# Altium schematic symbol library Connector_Generic_MountingPin.SchLib: 334 symbols (part 1 of 8)
Pins are listed as number, name and electrical type; pins without a type are passive.

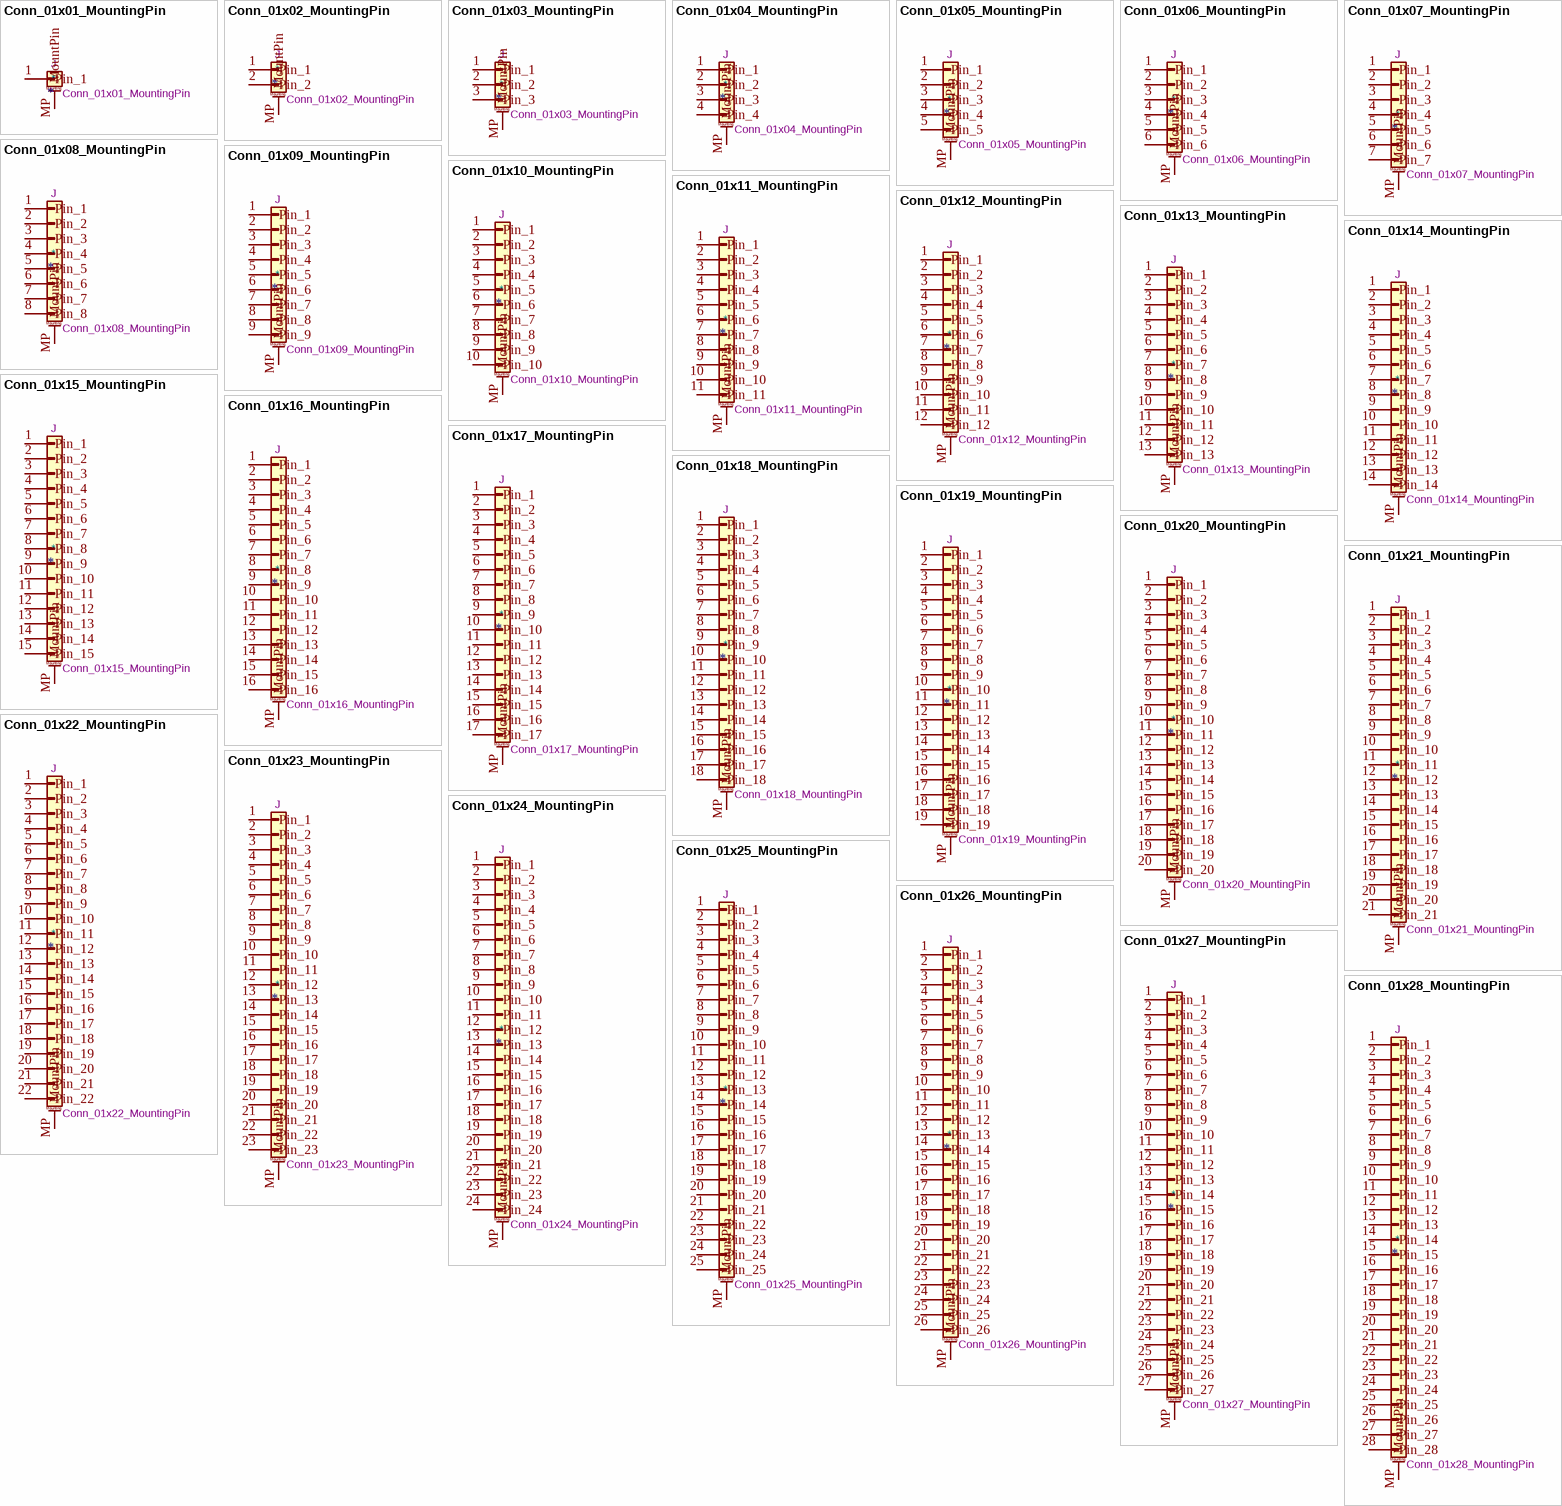
[diagram p0: symbols Conn_01x01_MountingPin to Conn_01x28_MountingPin]

## Conn_01x01_MountingPin
designator *  value Conn_01x01_MountingPin  Reference: J
Generic connectable mounting pin connector, single row, 01x01, script generated (kicad-library-utils/schlib/autogen/connector/); ki_fp_filters: Connector*:*_1x??-1MP*; Datasheet: ~; Description_: Generic connectable mounting pin connector, single row, 01x01, script generated (kicad-library-utils/schlib/autogen/connector/); ki_keywords: connector
pins: 1 Pin_1, MP MountPin
text: Mounting

## Conn_01x02_MountingPin
designator *  value Conn_01x02_MountingPin  Reference: J
Generic connectable mounting pin connector, single row, 01x02, script generated (kicad-library-utils/schlib/autogen/connector/); ki_fp_filters: Connector*:*_1x??-1MP*; Datasheet: ~; Description_: Generic connectable mounting pin connector, single row, 01x02, script generated (kicad-library-utils/schlib/autogen/connector/); ki_keywords: connector
pins: 1 Pin_1, 2 Pin_2, MP MountPin
text: Mounting

## Conn_01x03_MountingPin
designator *  value Conn_01x03_MountingPin  Reference: J
Generic connectable mounting pin connector, single row, 01x03, script generated (kicad-library-utils/schlib/autogen/connector/); ki_fp_filters: Connector*:*_1x??-1MP*; Datasheet: ~; Description_: Generic connectable mounting pin connector, single row, 01x03, script generated (kicad-library-utils/schlib/autogen/connector/); ki_keywords: connector
pins: 1 Pin_1, 2 Pin_2, 3 Pin_3, MP MountPin
text: Mounting

## Conn_01x04_MountingPin
designator *  value Conn_01x04_MountingPin  Reference: J
Generic connectable mounting pin connector, single row, 01x04, script generated (kicad-library-utils/schlib/autogen/connector/); ki_fp_filters: Connector*:*_1x??-1MP*; Datasheet: ~; Description_: Generic connectable mounting pin connector, single row, 01x04, script generated (kicad-library-utils/schlib/autogen/connector/); ki_keywords: connector
pins: 1 Pin_1, 2 Pin_2, 3 Pin_3, 4 Pin_4, MP MountPin
text: Mounting

## Conn_01x05_MountingPin
designator *  value Conn_01x05_MountingPin  Reference: J
Generic connectable mounting pin connector, single row, 01x05, script generated (kicad-library-utils/schlib/autogen/connector/); ki_fp_filters: Connector*:*_1x??-1MP*; Datasheet: ~; Description_: Generic connectable mounting pin connector, single row, 01x05, script generated (kicad-library-utils/schlib/autogen/connector/); ki_keywords: connector
pins: 1 Pin_1, 2 Pin_2, 3 Pin_3, 4 Pin_4, 5 Pin_5, MP MountPin
text: Mounting

## Conn_01x06_MountingPin
designator *  value Conn_01x06_MountingPin  Reference: J
Generic connectable mounting pin connector, single row, 01x06, script generated (kicad-library-utils/schlib/autogen/connector/); ki_fp_filters: Connector*:*_1x??-1MP*; Datasheet: ~; Description_: Generic connectable mounting pin connector, single row, 01x06, script generated (kicad-library-utils/schlib/autogen/connector/); ki_keywords: connector
pins: 1 Pin_1, 2 Pin_2, 3 Pin_3, 4 Pin_4, 5 Pin_5, 6 Pin_6, MP MountPin
text: Mounting

## Conn_01x07_MountingPin
designator *  value Conn_01x07_MountingPin  Reference: J
Generic connectable mounting pin connector, single row, 01x07, script generated (kicad-library-utils/schlib/autogen/connector/); ki_fp_filters: Connector*:*_1x??-1MP*; Datasheet: ~; Description_: Generic connectable mounting pin connector, single row, 01x07, script generated (kicad-library-utils/schlib/autogen/connector/); ki_keywords: connector
pins: 1 Pin_1, 2 Pin_2, 3 Pin_3, 4 Pin_4, 5 Pin_5, 6 Pin_6, 7 Pin_7, MP MountPin
text: Mounting

## Conn_01x08_MountingPin
designator *  value Conn_01x08_MountingPin  Reference: J
Generic connectable mounting pin connector, single row, 01x08, script generated (kicad-library-utils/schlib/autogen/connector/); ki_fp_filters: Connector*:*_1x??-1MP*; Datasheet: ~; Description_: Generic connectable mounting pin connector, single row, 01x08, script generated (kicad-library-utils/schlib/autogen/connector/); ki_keywords: connector
pins: 1 Pin_1, 2 Pin_2, 3 Pin_3, 4 Pin_4, 5 Pin_5, 6 Pin_6, 7 Pin_7, 8 Pin_8, MP MountPin
text: Mounting

## Conn_01x09_MountingPin
designator *  value Conn_01x09_MountingPin  Reference: J
Generic connectable mounting pin connector, single row, 01x09, script generated (kicad-library-utils/schlib/autogen/connector/); ki_fp_filters: Connector*:*_1x??-1MP*; Datasheet: ~; Description_: Generic connectable mounting pin connector, single row, 01x09, script generated (kicad-library-utils/schlib/autogen/connector/); ki_keywords: connector
pins: 1 Pin_1, 2 Pin_2, 3 Pin_3, 4 Pin_4, 5 Pin_5, 6 Pin_6, 7 Pin_7, 8 Pin_8, 9 Pin_9, MP MountPin
text: Mounting

## Conn_01x10_MountingPin
designator *  value Conn_01x10_MountingPin  Reference: J
Generic connectable mounting pin connector, single row, 01x10, script generated (kicad-library-utils/schlib/autogen/connector/); ki_fp_filters: Connector*:*_1x??-1MP*; Datasheet: ~; Description_: Generic connectable mounting pin connector, single row, 01x10, script generated (kicad-library-utils/schlib/autogen/connector/); ki_keywords: connector
pins: 1 Pin_1, 2 Pin_2, 3 Pin_3, 4 Pin_4, 5 Pin_5, 6 Pin_6, 7 Pin_7, 8 Pin_8, 9 Pin_9, 10 Pin_10, MP MountPin
text: Mounting

## Conn_01x11_MountingPin
designator *  value Conn_01x11_MountingPin  Reference: J
Generic connectable mounting pin connector, single row, 01x11, script generated (kicad-library-utils/schlib/autogen/connector/); ki_fp_filters: Connector*:*_1x??-1MP*; Datasheet: ~; Description_: Generic connectable mounting pin connector, single row, 01x11, script generated (kicad-library-utils/schlib/autogen/connector/); ki_keywords: connector
pins: 1 Pin_1, 2 Pin_2, 3 Pin_3, 4 Pin_4, 5 Pin_5, 6 Pin_6, 7 Pin_7, 8 Pin_8, 9 Pin_9, 10 Pin_10, 11 Pin_11, MP MountPin
text: Mounting

## Conn_01x12_MountingPin
designator *  value Conn_01x12_MountingPin  Reference: J
Generic connectable mounting pin connector, single row, 01x12, script generated (kicad-library-utils/schlib/autogen/connector/); ki_fp_filters: Connector*:*_1x??-1MP*; Datasheet: ~; Description_: Generic connectable mounting pin connector, single row, 01x12, script generated (kicad-library-utils/schlib/autogen/connector/); ki_keywords: connector
footprint Molex_MX120G_36783-1201_2x6_P3.20mm_RightAngle_THT
pins: 1 Pin_1, 2 Pin_2, 3 Pin_3, 4 Pin_4, 5 Pin_5, 6 Pin_6, 7 Pin_7, 8 Pin_8, 9 Pin_9, 10 Pin_10, 11 Pin_11, 12 Pin_12, MP MountPin
text: Mounting

## Conn_01x13_MountingPin
designator *  value Conn_01x13_MountingPin  Reference: J
Generic connectable mounting pin connector, single row, 01x13, script generated (kicad-library-utils/schlib/autogen/connector/); ki_fp_filters: Connector*:*_1x??-1MP*; Datasheet: ~; Description_: Generic connectable mounting pin connector, single row, 01x13, script generated (kicad-library-utils/schlib/autogen/connector/); ki_keywords: connector
pins: 1 Pin_1, 2 Pin_2, 3 Pin_3, 4 Pin_4, 5 Pin_5, 6 Pin_6, 7 Pin_7, 8 Pin_8, 9 Pin_9, 10 Pin_10, 11 Pin_11, 12 Pin_12, 13 Pin_13, MP MountPin
text: Mounting

## Conn_01x14_MountingPin
designator *  value Conn_01x14_MountingPin  Reference: J
Generic connectable mounting pin connector, single row, 01x14, script generated (kicad-library-utils/schlib/autogen/connector/); ki_fp_filters: Connector*:*_1x??-1MP*; Datasheet: ~; Description_: Generic connectable mounting pin connector, single row, 01x14, script generated (kicad-library-utils/schlib/autogen/connector/); ki_keywords: connector
pins: 1 Pin_1, 2 Pin_2, 3 Pin_3, 4 Pin_4, 5 Pin_5, 6 Pin_6, 7 Pin_7, 8 Pin_8, 9 Pin_9, 10 Pin_10, 11 Pin_11, 12 Pin_12, 13 Pin_13, 14 Pin_14, MP MountPin
text: Mounting

## Conn_01x15_MountingPin
designator *  value Conn_01x15_MountingPin  Reference: J
Generic connectable mounting pin connector, single row, 01x15, script generated (kicad-library-utils/schlib/autogen/connector/); ki_fp_filters: Connector*:*_1x??-1MP*; Datasheet: ~; Description_: Generic connectable mounting pin connector, single row, 01x15, script generated (kicad-library-utils/schlib/autogen/connector/); ki_keywords: connector
pins: 1 Pin_1, 2 Pin_2, 3 Pin_3, 4 Pin_4, 5 Pin_5, 6 Pin_6, 7 Pin_7, 8 Pin_8, 9 Pin_9, 10 Pin_10, 11 Pin_11, 12 Pin_12, 13 Pin_13, 14 Pin_14, 15 Pin_15, MP MountPin
text: Mounting

## Conn_01x16_MountingPin
designator *  value Conn_01x16_MountingPin  Reference: J
Generic connectable mounting pin connector, single row, 01x16, script generated (kicad-library-utils/schlib/autogen/connector/); ki_fp_filters: Connector*:*_1x??-1MP*; Datasheet: ~; Description_: Generic connectable mounting pin connector, single row, 01x16, script generated (kicad-library-utils/schlib/autogen/connector/); ki_keywords: connector
pins: 1 Pin_1, 2 Pin_2, 3 Pin_3, 4 Pin_4, 5 Pin_5, 6 Pin_6, 7 Pin_7, 8 Pin_8, 9 Pin_9, 10 Pin_10, 11 Pin_11, 12 Pin_12, 13 Pin_13, 14 Pin_14, 15 Pin_15, 16 Pin_16, MP MountPin
text: Mounting

## Conn_01x17_MountingPin
designator *  value Conn_01x17_MountingPin  Reference: J
Generic connectable mounting pin connector, single row, 01x17, script generated (kicad-library-utils/schlib/autogen/connector/); ki_fp_filters: Connector*:*_1x??-1MP*; Datasheet: ~; Description_: Generic connectable mounting pin connector, single row, 01x17, script generated (kicad-library-utils/schlib/autogen/connector/); ki_keywords: connector
pins: 1 Pin_1, 2 Pin_2, 3 Pin_3, 4 Pin_4, 5 Pin_5, 6 Pin_6, 7 Pin_7, 8 Pin_8, 9 Pin_9, 10 Pin_10, 11 Pin_11, 12 Pin_12, 13 Pin_13, 14 Pin_14, 15 Pin_15, 16 Pin_16, 17 Pin_17, MP MountPin
text: Mounting

## Conn_01x18_MountingPin
designator *  value Conn_01x18_MountingPin  Reference: J
Generic connectable mounting pin connector, single row, 01x18, script generated (kicad-library-utils/schlib/autogen/connector/); ki_fp_filters: Connector*:*_1x??-1MP*; Datasheet: ~; Description_: Generic connectable mounting pin connector, single row, 01x18, script generated (kicad-library-utils/schlib/autogen/connector/); ki_keywords: connector
pins: 1 Pin_1, 2 Pin_2, 3 Pin_3, 4 Pin_4, 5 Pin_5, 6 Pin_6, 7 Pin_7, 8 Pin_8, 9 Pin_9, 10 Pin_10, 11 Pin_11, 12 Pin_12, 13 Pin_13, 14 Pin_14, 15 Pin_15, 16 Pin_16, 17 Pin_17, 18 Pin_18, MP MountPin
text: Mounting

## Conn_01x19_MountingPin
designator *  value Conn_01x19_MountingPin  Reference: J
Generic connectable mounting pin connector, single row, 01x19, script generated (kicad-library-utils/schlib/autogen/connector/); ki_fp_filters: Connector*:*_1x??-1MP*; Datasheet: ~; Description_: Generic connectable mounting pin connector, single row, 01x19, script generated (kicad-library-utils/schlib/autogen/connector/); ki_keywords: connector
pins: 1 Pin_1, 2 Pin_2, 3 Pin_3, 4 Pin_4, 5 Pin_5, 6 Pin_6, 7 Pin_7, 8 Pin_8, 9 Pin_9, 10 Pin_10, 11 Pin_11, 12 Pin_12, 13 Pin_13, 14 Pin_14, 15 Pin_15, 16 Pin_16, 17 Pin_17, 18 Pin_18, 19 Pin_19, MP MountPin
text: Mounting

## Conn_01x20_MountingPin
designator *  value Conn_01x20_MountingPin  Reference: J
Generic connectable mounting pin connector, single row, 01x20, script generated (kicad-library-utils/schlib/autogen/connector/); ki_fp_filters: Connector*:*_1x??-1MP*; Datasheet: ~; Description_: Generic connectable mounting pin connector, single row, 01x20, script generated (kicad-library-utils/schlib/autogen/connector/); ki_keywords: connector
pins: 1 Pin_1, 2 Pin_2, 3 Pin_3, 4 Pin_4, 5 Pin_5, 6 Pin_6, 7 Pin_7, 8 Pin_8, 9 Pin_9, 10 Pin_10, 11 Pin_11, 12 Pin_12, 13 Pin_13, 14 Pin_14, 15 Pin_15, 16 Pin_16, 17 Pin_17, 18 Pin_18, 19 Pin_19, 20 Pin_20, MP MountPin
text: Mounting

## Conn_01x21_MountingPin
designator *  value Conn_01x21_MountingPin  Reference: J
Generic connectable mounting pin connector, single row, 01x21, script generated (kicad-library-utils/schlib/autogen/connector/); ki_fp_filters: Connector*:*_1x??-1MP*; Datasheet: ~; Description_: Generic connectable mounting pin connector, single row, 01x21, script generated (kicad-library-utils/schlib/autogen/connector/); ki_keywords: connector
pins: 1 Pin_1, 2 Pin_2, 3 Pin_3, 4 Pin_4, 5 Pin_5, 6 Pin_6, 7 Pin_7, 8 Pin_8, 9 Pin_9, 10 Pin_10, 11 Pin_11, 12 Pin_12, 13 Pin_13, 14 Pin_14, 15 Pin_15, 16 Pin_16, 17 Pin_17, 18 Pin_18, 19 Pin_19, 20 Pin_20, 21 Pin_21, MP MountPin
text: Mounting

## Conn_01x22_MountingPin
designator *  value Conn_01x22_MountingPin  Reference: J
Generic connectable mounting pin connector, single row, 01x22, script generated (kicad-library-utils/schlib/autogen/connector/); ki_fp_filters: Connector*:*_1x??-1MP*; Datasheet: ~; Description_: Generic connectable mounting pin connector, single row, 01x22, script generated (kicad-library-utils/schlib/autogen/connector/); ki_keywords: connector
pins: 1 Pin_1, 2 Pin_2, 3 Pin_3, 4 Pin_4, 5 Pin_5, 6 Pin_6, 7 Pin_7, 8 Pin_8, 9 Pin_9, 10 Pin_10, 11 Pin_11, 12 Pin_12, 13 Pin_13, 14 Pin_14, 15 Pin_15, 16 Pin_16, 17 Pin_17, 18 Pin_18, 19 Pin_19, 20 Pin_20, 21 Pin_21, 22 Pin_22, MP MountPin
text: Mounting

## Conn_01x23_MountingPin
designator *  value Conn_01x23_MountingPin  Reference: J
Generic connectable mounting pin connector, single row, 01x23, script generated (kicad-library-utils/schlib/autogen/connector/); ki_fp_filters: Connector*:*_1x??-1MP*; Datasheet: ~; Description_: Generic connectable mounting pin connector, single row, 01x23, script generated (kicad-library-utils/schlib/autogen/connector/); ki_keywords: connector
pins: 1 Pin_1, 2 Pin_2, 3 Pin_3, 4 Pin_4, 5 Pin_5, 6 Pin_6, 7 Pin_7, 8 Pin_8, 9 Pin_9, 10 Pin_10, 11 Pin_11, 12 Pin_12, 13 Pin_13, 14 Pin_14, 15 Pin_15, 16 Pin_16, 17 Pin_17, 18 Pin_18, 19 Pin_19, 20 Pin_20, 21 Pin_21, 22 Pin_22, 23 Pin_23, MP MountPin
text: Mounting

## Conn_01x24_MountingPin
designator *  value Conn_01x24_MountingPin  Reference: J
Generic connectable mounting pin connector, single row, 01x24, script generated (kicad-library-utils/schlib/autogen/connector/); ki_fp_filters: Connector*:*_1x??-1MP*; Datasheet: ~; Description_: Generic connectable mounting pin connector, single row, 01x24, script generated (kicad-library-utils/schlib/autogen/connector/); ki_keywords: connector
pins: 1 Pin_1, 2 Pin_2, 3 Pin_3, 4 Pin_4, 5 Pin_5, 6 Pin_6, 7 Pin_7, 8 Pin_8, 9 Pin_9, 10 Pin_10, 11 Pin_11, 12 Pin_12, 13 Pin_13, 14 Pin_14, 15 Pin_15, 16 Pin_16, 17 Pin_17, 18 Pin_18, 19 Pin_19, 20 Pin_20, 21 Pin_21, 22 Pin_22, 23 Pin_23, 24 Pin_24, MP MountPin
text: Mounting

## Conn_01x25_MountingPin
designator *  value Conn_01x25_MountingPin  Reference: J
Generic connectable mounting pin connector, single row, 01x25, script generated (kicad-library-utils/schlib/autogen/connector/); ki_fp_filters: Connector*:*_1x??-1MP*; Datasheet: ~; Description_: Generic connectable mounting pin connector, single row, 01x25, script generated (kicad-library-utils/schlib/autogen/connector/); ki_keywords: connector
pins: 1 Pin_1, 2 Pin_2, 3 Pin_3, 4 Pin_4, 5 Pin_5, 6 Pin_6, 7 Pin_7, 8 Pin_8, 9 Pin_9, 10 Pin_10, 11 Pin_11, 12 Pin_12, 13 Pin_13, 14 Pin_14, 15 Pin_15, 16 Pin_16, 17 Pin_17, 18 Pin_18, 19 Pin_19, 20 Pin_20, 21 Pin_21, 22 Pin_22, 23 Pin_23, 24 Pin_24, 25 Pin_25, MP MountPin
text: Mounting

## Conn_01x26_MountingPin
designator *  value Conn_01x26_MountingPin  Reference: J
Generic connectable mounting pin connector, single row, 01x26, script generated (kicad-library-utils/schlib/autogen/connector/); ki_fp_filters: Connector*:*_1x??-1MP*; Datasheet: ~; Description_: Generic connectable mounting pin connector, single row, 01x26, script generated (kicad-library-utils/schlib/autogen/connector/); ki_keywords: connector
pins: 1 Pin_1, 2 Pin_2, 3 Pin_3, 4 Pin_4, 5 Pin_5, 6 Pin_6, 7 Pin_7, 8 Pin_8, 9 Pin_9, 10 Pin_10, 11 Pin_11, 12 Pin_12, 13 Pin_13, 14 Pin_14, 15 Pin_15, 16 Pin_16, 17 Pin_17, 18 Pin_18, 19 Pin_19, 20 Pin_20, 21 Pin_21, 22 Pin_22, 23 Pin_23, 24 Pin_24, 25 Pin_25, 26 Pin_26, MP MountPin
text: Mounting

## Conn_01x27_MountingPin
designator *  value Conn_01x27_MountingPin  Reference: J
Generic connectable mounting pin connector, single row, 01x27, script generated (kicad-library-utils/schlib/autogen/connector/); ki_fp_filters: Connector*:*_1x??-1MP*; Datasheet: ~; Description_: Generic connectable mounting pin connector, single row, 01x27, script generated (kicad-library-utils/schlib/autogen/connector/); ki_keywords: connector
pins: 1 Pin_1, 2 Pin_2, 3 Pin_3, 4 Pin_4, 5 Pin_5, 6 Pin_6, 7 Pin_7, 8 Pin_8, 9 Pin_9, 10 Pin_10, 11 Pin_11, 12 Pin_12, 13 Pin_13, 14 Pin_14, 15 Pin_15, 16 Pin_16, 17 Pin_17, 18 Pin_18, 19 Pin_19, 20 Pin_20, 21 Pin_21, 22 Pin_22, 23 Pin_23, 24 Pin_24, 25 Pin_25, 26 Pin_26, 27 Pin_27, MP MountPin
text: Mounting

## Conn_01x28_MountingPin
designator *  value Conn_01x28_MountingPin  Reference: J
Generic connectable mounting pin connector, single row, 01x28, script generated (kicad-library-utils/schlib/autogen/connector/); ki_fp_filters: Connector*:*_1x??-1MP*; Datasheet: ~; Description_: Generic connectable mounting pin connector, single row, 01x28, script generated (kicad-library-utils/schlib/autogen/connector/); ki_keywords: connector
pins: 1 Pin_1, 2 Pin_2, 3 Pin_3, 4 Pin_4, 5 Pin_5, 6 Pin_6, 7 Pin_7, 8 Pin_8, 9 Pin_9, 10 Pin_10, 11 Pin_11, 12 Pin_12, 13 Pin_13, 14 Pin_14, 15 Pin_15, 16 Pin_16, 17 Pin_17, 18 Pin_18, 19 Pin_19, 20 Pin_20, 21 Pin_21, 22 Pin_22, 23 Pin_23, 24 Pin_24, 25 Pin_25, 26 Pin_26, 27 Pin_27, 28 Pin_28, MP MountPin
text: Mounting

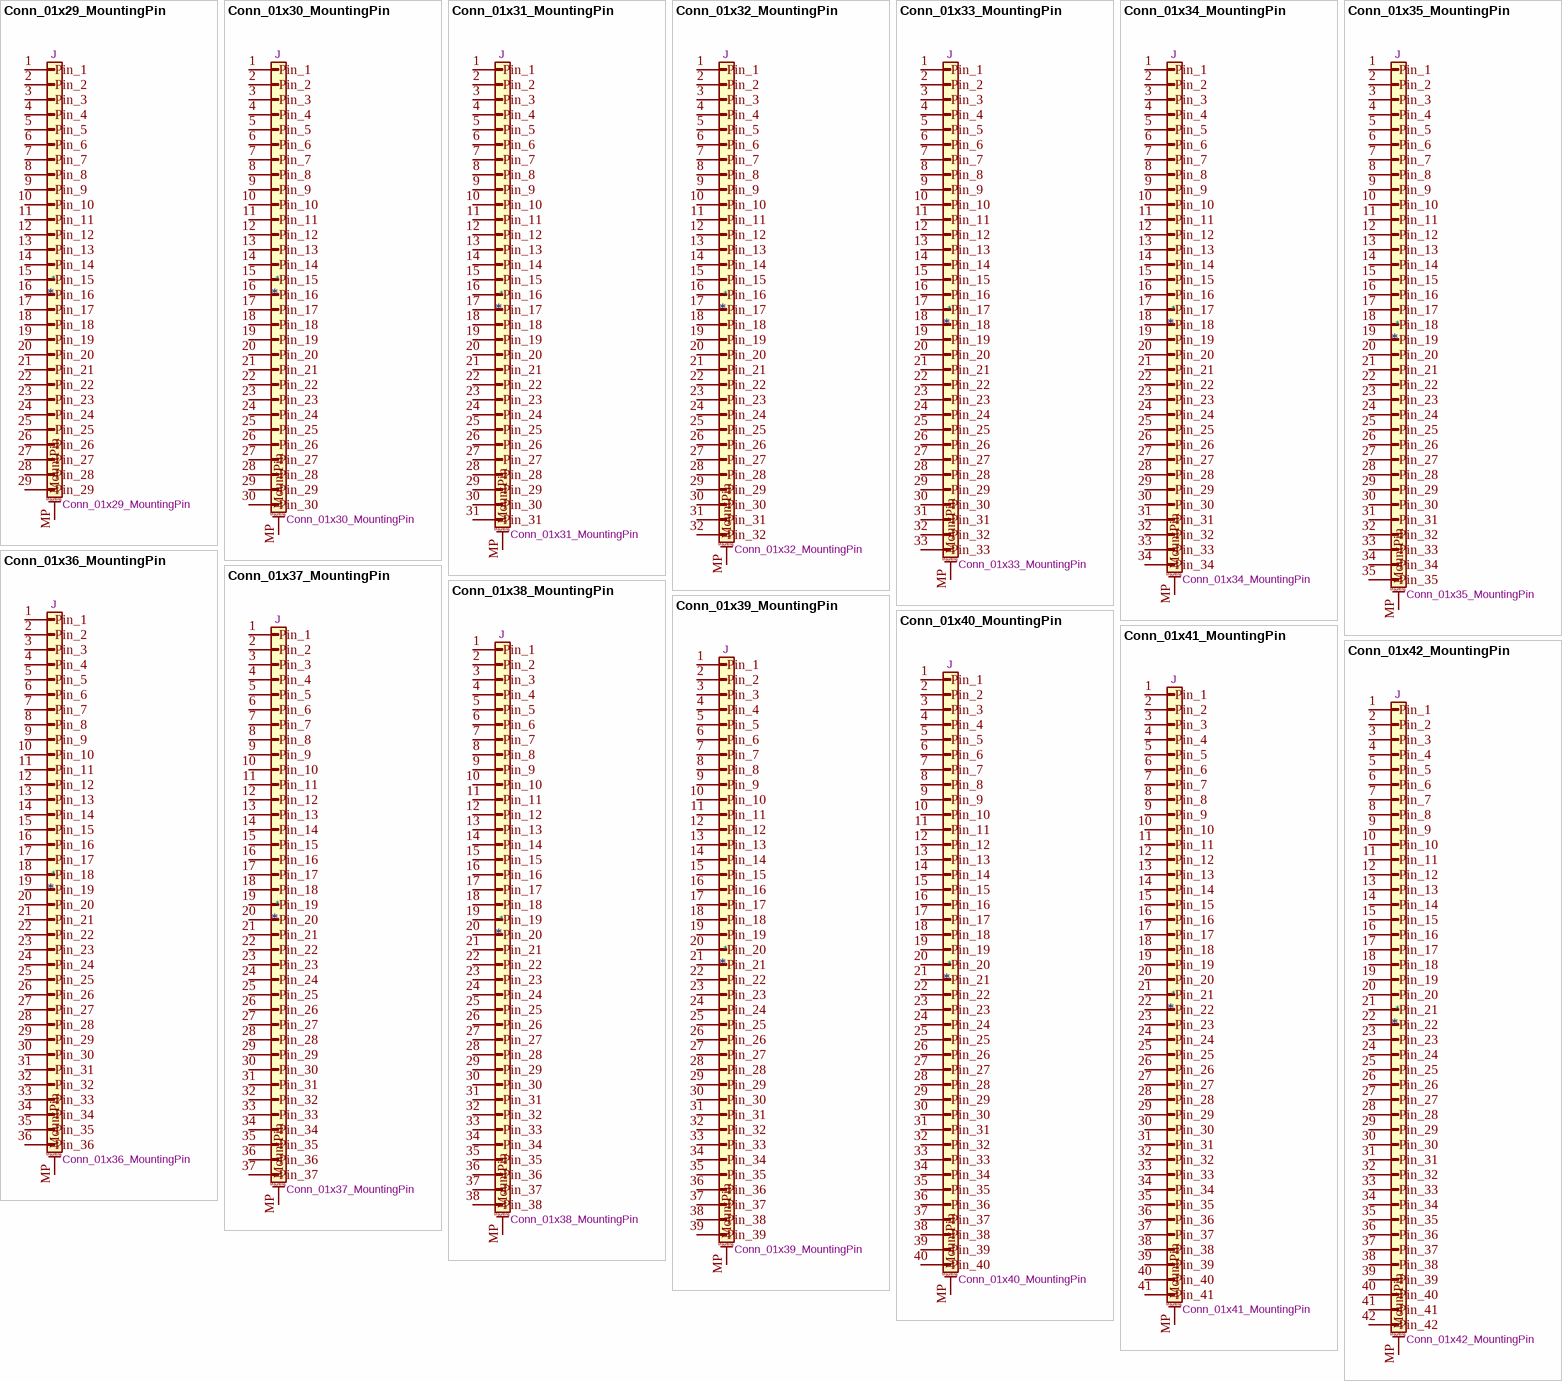
[diagram p1: symbols Conn_01x29_MountingPin to Conn_01x42_MountingPin]

## Conn_01x29_MountingPin
designator *  value Conn_01x29_MountingPin  Reference: J
Generic connectable mounting pin connector, single row, 01x29, script generated (kicad-library-utils/schlib/autogen/connector/); ki_fp_filters: Connector*:*_1x??-1MP*; Datasheet: ~; Description_: Generic connectable mounting pin connector, single row, 01x29, script generated (kicad-library-utils/schlib/autogen/connector/); ki_keywords: connector
pins: 1 Pin_1, 2 Pin_2, 3 Pin_3, 4 Pin_4, 5 Pin_5, 6 Pin_6, 7 Pin_7, 8 Pin_8, 9 Pin_9, 10 Pin_10, 11 Pin_11, 12 Pin_12, 13 Pin_13, 14 Pin_14, 15 Pin_15, 16 Pin_16, 17 Pin_17, 18 Pin_18, 19 Pin_19, 20 Pin_20, 21 Pin_21, 22 Pin_22, 23 Pin_23, 24 Pin_24, 25 Pin_25, 26 Pin_26, 27 Pin_27, 28 Pin_28, 29 Pin_29, MP MountPin
text: Mounting

## Conn_01x30_MountingPin
designator *  value Conn_01x30_MountingPin  Reference: J
Generic connectable mounting pin connector, single row, 01x30, script generated (kicad-library-utils/schlib/autogen/connector/); ki_fp_filters: Connector*:*_1x??-1MP*; Datasheet: ~; Description_: Generic connectable mounting pin connector, single row, 01x30, script generated (kicad-library-utils/schlib/autogen/connector/); ki_keywords: connector
pins: 1 Pin_1, 2 Pin_2, 3 Pin_3, 4 Pin_4, 5 Pin_5, 6 Pin_6, 7 Pin_7, 8 Pin_8, 9 Pin_9, 10 Pin_10, 11 Pin_11, 12 Pin_12, 13 Pin_13, 14 Pin_14, 15 Pin_15, 16 Pin_16, 17 Pin_17, 18 Pin_18, 19 Pin_19, 20 Pin_20, 21 Pin_21, 22 Pin_22, 23 Pin_23, 24 Pin_24, 25 Pin_25, 26 Pin_26, 27 Pin_27, 28 Pin_28, 29 Pin_29, 30 Pin_30, MP MountPin
text: Mounting

## Conn_01x31_MountingPin
designator *  value Conn_01x31_MountingPin  Reference: J
Generic connectable mounting pin connector, single row, 01x31, script generated (kicad-library-utils/schlib/autogen/connector/); ki_fp_filters: Connector*:*_1x??-1MP*; Datasheet: ~; Description_: Generic connectable mounting pin connector, single row, 01x31, script generated (kicad-library-utils/schlib/autogen/connector/); ki_keywords: connector
pins: 1 Pin_1, 2 Pin_2, 3 Pin_3, 4 Pin_4, 5 Pin_5, 6 Pin_6, 7 Pin_7, 8 Pin_8, 9 Pin_9, 10 Pin_10, 11 Pin_11, 12 Pin_12, 13 Pin_13, 14 Pin_14, 15 Pin_15, 16 Pin_16, 17 Pin_17, 18 Pin_18, 19 Pin_19, 20 Pin_20, 21 Pin_21, 22 Pin_22, 23 Pin_23, 24 Pin_24, 25 Pin_25, 26 Pin_26, 27 Pin_27, 28 Pin_28, 29 Pin_29, 30 Pin_30, 31 Pin_31, MP MountPin
text: Mounting

## Conn_01x32_MountingPin
designator *  value Conn_01x32_MountingPin  Reference: J
Generic connectable mounting pin connector, single row, 01x32, script generated (kicad-library-utils/schlib/autogen/connector/); ki_fp_filters: Connector*:*_1x??-1MP*; Datasheet: ~; Description_: Generic connectable mounting pin connector, single row, 01x32, script generated (kicad-library-utils/schlib/autogen/connector/); ki_keywords: connector
pins: 1 Pin_1, 2 Pin_2, 3 Pin_3, 4 Pin_4, 5 Pin_5, 6 Pin_6, 7 Pin_7, 8 Pin_8, 9 Pin_9, 10 Pin_10, 11 Pin_11, 12 Pin_12, 13 Pin_13, 14 Pin_14, 15 Pin_15, 16 Pin_16, 17 Pin_17, 18 Pin_18, 19 Pin_19, 20 Pin_20, 21 Pin_21, 22 Pin_22, 23 Pin_23, 24 Pin_24, 25 Pin_25, 26 Pin_26, 27 Pin_27, 28 Pin_28, 29 Pin_29, 30 Pin_30, 31 Pin_31, 32 Pin_32, MP MountPin
text: Mounting

## Conn_01x33_MountingPin
designator *  value Conn_01x33_MountingPin  Reference: J
Generic connectable mounting pin connector, single row, 01x33, script generated (kicad-library-utils/schlib/autogen/connector/); ki_fp_filters: Connector*:*_1x??-1MP*; Datasheet: ~; Description_: Generic connectable mounting pin connector, single row, 01x33, script generated (kicad-library-utils/schlib/autogen/connector/); ki_keywords: connector
pins: 1 Pin_1, 2 Pin_2, 3 Pin_3, 4 Pin_4, 5 Pin_5, 6 Pin_6, 7 Pin_7, 8 Pin_8, 9 Pin_9, 10 Pin_10, 11 Pin_11, 12 Pin_12, 13 Pin_13, 14 Pin_14, 15 Pin_15, 16 Pin_16, 17 Pin_17, 18 Pin_18, 19 Pin_19, 20 Pin_20, 21 Pin_21, 22 Pin_22, 23 Pin_23, 24 Pin_24, 25 Pin_25, 26 Pin_26, 27 Pin_27, 28 Pin_28, 29 Pin_29, 30 Pin_30, 31 Pin_31, 32 Pin_32, 33 Pin_33, MP MountPin
text: Mounting

## Conn_01x34_MountingPin
designator *  value Conn_01x34_MountingPin  Reference: J
Generic connectable mounting pin connector, single row, 01x34, script generated (kicad-library-utils/schlib/autogen/connector/); ki_fp_filters: Connector*:*_1x??-1MP*; Datasheet: ~; Description_: Generic connectable mounting pin connector, single row, 01x34, script generated (kicad-library-utils/schlib/autogen/connector/); ki_keywords: connector
pins: 1 Pin_1, 2 Pin_2, 3 Pin_3, 4 Pin_4, 5 Pin_5, 6 Pin_6, 7 Pin_7, 8 Pin_8, 9 Pin_9, 10 Pin_10, 11 Pin_11, 12 Pin_12, 13 Pin_13, 14 Pin_14, 15 Pin_15, 16 Pin_16, 17 Pin_17, 18 Pin_18, 19 Pin_19, 20 Pin_20, 21 Pin_21, 22 Pin_22, 23 Pin_23, 24 Pin_24, 25 Pin_25, 26 Pin_26, 27 Pin_27, 28 Pin_28, 29 Pin_29, 30 Pin_30, 31 Pin_31, 32 Pin_32, 33 Pin_33, 34 Pin_34, MP MountPin
text: Mounting

## Conn_01x35_MountingPin
designator *  value Conn_01x35_MountingPin  Reference: J
Generic connectable mounting pin connector, single row, 01x35, script generated (kicad-library-utils/schlib/autogen/connector/); ki_fp_filters: Connector*:*_1x??-1MP*; Datasheet: ~; Description_: Generic connectable mounting pin connector, single row, 01x35, script generated (kicad-library-utils/schlib/autogen/connector/); ki_keywords: connector
pins: 1 Pin_1, 2 Pin_2, 3 Pin_3, 4 Pin_4, 5 Pin_5, 6 Pin_6, 7 Pin_7, 8 Pin_8, 9 Pin_9, 10 Pin_10, 11 Pin_11, 12 Pin_12, 13 Pin_13, 14 Pin_14, 15 Pin_15, 16 Pin_16, 17 Pin_17, 18 Pin_18, 19 Pin_19, 20 Pin_20, 21 Pin_21, 22 Pin_22, 23 Pin_23, 24 Pin_24, 25 Pin_25, 26 Pin_26, 27 Pin_27, 28 Pin_28, 29 Pin_29, 30 Pin_30, 31 Pin_31, 32 Pin_32, 33 Pin_33, 34 Pin_34, 35 Pin_35, MP MountPin
text: Mounting

## Conn_01x36_MountingPin
designator *  value Conn_01x36_MountingPin  Reference: J
Generic connectable mounting pin connector, single row, 01x36, script generated (kicad-library-utils/schlib/autogen/connector/); ki_fp_filters: Connector*:*_1x??-1MP*; Datasheet: ~; Description_: Generic connectable mounting pin connector, single row, 01x36, script generated (kicad-library-utils/schlib/autogen/connector/); ki_keywords: connector
pins: 1 Pin_1, 2 Pin_2, 3 Pin_3, 4 Pin_4, 5 Pin_5, 6 Pin_6, 7 Pin_7, 8 Pin_8, 9 Pin_9, 10 Pin_10, 11 Pin_11, 12 Pin_12, 13 Pin_13, 14 Pin_14, 15 Pin_15, 16 Pin_16, 17 Pin_17, 18 Pin_18, 19 Pin_19, 20 Pin_20, 21 Pin_21, 22 Pin_22, 23 Pin_23, 24 Pin_24, 25 Pin_25, 26 Pin_26, 27 Pin_27, 28 Pin_28, 29 Pin_29, 30 Pin_30, 31 Pin_31, 32 Pin_32, 33 Pin_33, 34 Pin_34, 35 Pin_35, 36 Pin_36, MP MountPin
text: Mounting

## Conn_01x37_MountingPin
designator *  value Conn_01x37_MountingPin  Reference: J
Generic connectable mounting pin connector, single row, 01x37, script generated (kicad-library-utils/schlib/autogen/connector/); ki_fp_filters: Connector*:*_1x??-1MP*; Datasheet: ~; Description_: Generic connectable mounting pin connector, single row, 01x37, script generated (kicad-library-utils/schlib/autogen/connector/); ki_keywords: connector
pins: 1 Pin_1, 2 Pin_2, 3 Pin_3, 4 Pin_4, 5 Pin_5, 6 Pin_6, 7 Pin_7, 8 Pin_8, 9 Pin_9, 10 Pin_10, 11 Pin_11, 12 Pin_12, 13 Pin_13, 14 Pin_14, 15 Pin_15, 16 Pin_16, 17 Pin_17, 18 Pin_18, 19 Pin_19, 20 Pin_20, 21 Pin_21, 22 Pin_22, 23 Pin_23, 24 Pin_24, 25 Pin_25, 26 Pin_26, 27 Pin_27, 28 Pin_28, 29 Pin_29, 30 Pin_30, 31 Pin_31, 32 Pin_32, 33 Pin_33, 34 Pin_34, 35 Pin_35, 36 Pin_36, 37 Pin_37, MP MountPin
text: Mounting

## Conn_01x38_MountingPin
designator *  value Conn_01x38_MountingPin  Reference: J
Generic connectable mounting pin connector, single row, 01x38, script generated (kicad-library-utils/schlib/autogen/connector/); ki_fp_filters: Connector*:*_1x??-1MP*; Datasheet: ~; Description_: Generic connectable mounting pin connector, single row, 01x38, script generated (kicad-library-utils/schlib/autogen/connector/); ki_keywords: connector
pins: 1 Pin_1, 2 Pin_2, 3 Pin_3, 4 Pin_4, 5 Pin_5, 6 Pin_6, 7 Pin_7, 8 Pin_8, 9 Pin_9, 10 Pin_10, 11 Pin_11, 12 Pin_12, 13 Pin_13, 14 Pin_14, 15 Pin_15, 16 Pin_16, 17 Pin_17, 18 Pin_18, 19 Pin_19, 20 Pin_20, 21 Pin_21, 22 Pin_22, 23 Pin_23, 24 Pin_24, 25 Pin_25, 26 Pin_26, 27 Pin_27, 28 Pin_28, 29 Pin_29, 30 Pin_30, 31 Pin_31, 32 Pin_32, 33 Pin_33, 34 Pin_34, 35 Pin_35, 36 Pin_36, 37 Pin_37, 38 Pin_38, MP MountPin
text: Mounting

## Conn_01x39_MountingPin
designator *  value Conn_01x39_MountingPin  Reference: J
Generic connectable mounting pin connector, single row, 01x39, script generated (kicad-library-utils/schlib/autogen/connector/); ki_fp_filters: Connector*:*_1x??-1MP*; Datasheet: ~; Description_: Generic connectable mounting pin connector, single row, 01x39, script generated (kicad-library-utils/schlib/autogen/connector/); ki_keywords: connector
pins: 1 Pin_1, 2 Pin_2, 3 Pin_3, 4 Pin_4, 5 Pin_5, 6 Pin_6, 7 Pin_7, 8 Pin_8, 9 Pin_9, 10 Pin_10, 11 Pin_11, 12 Pin_12, 13 Pin_13, 14 Pin_14, 15 Pin_15, 16 Pin_16, 17 Pin_17, 18 Pin_18, 19 Pin_19, 20 Pin_20, 21 Pin_21, 22 Pin_22, 23 Pin_23, 24 Pin_24, 25 Pin_25, 26 Pin_26, 27 Pin_27, 28 Pin_28, 29 Pin_29, 30 Pin_30, 31 Pin_31, 32 Pin_32, 33 Pin_33, 34 Pin_34, 35 Pin_35, 36 Pin_36, 37 Pin_37, 38 Pin_38, 39 Pin_39, MP MountPin
text: Mounting

## Conn_01x40_MountingPin
designator *  value Conn_01x40_MountingPin  Reference: J
Generic connectable mounting pin connector, single row, 01x40, script generated (kicad-library-utils/schlib/autogen/connector/); ki_fp_filters: Connector*:*_1x??-1MP*; Datasheet: ~; Description_: Generic connectable mounting pin connector, single row, 01x40, script generated (kicad-library-utils/schlib/autogen/connector/); ki_keywords: connector
pins: 1 Pin_1, 2 Pin_2, 3 Pin_3, 4 Pin_4, 5 Pin_5, 6 Pin_6, 7 Pin_7, 8 Pin_8, 9 Pin_9, 10 Pin_10, 11 Pin_11, 12 Pin_12, 13 Pin_13, 14 Pin_14, 15 Pin_15, 16 Pin_16, 17 Pin_17, 18 Pin_18, 19 Pin_19, 20 Pin_20, 21 Pin_21, 22 Pin_22, 23 Pin_23, 24 Pin_24, 25 Pin_25, 26 Pin_26, 27 Pin_27, 28 Pin_28, 29 Pin_29, 30 Pin_30, 31 Pin_31, 32 Pin_32, 33 Pin_33, 34 Pin_34, 35 Pin_35, 36 Pin_36, 37 Pin_37, 38 Pin_38, 39 Pin_39, 40 Pin_40, MP MountPin
text: Mounting

## Conn_01x41_MountingPin
designator *  value Conn_01x41_MountingPin  Reference: J
"Generic connectable mounting pin connector, single row, 01x41, script generated"; ki_fp_filters: Connector*:*_1x??-1MP*; Datasheet: ~; Description_: "Generic connectable mounting pin connector, single row, 01x41, script generated"; ki_keywords: connector
pins: 1 Pin_1, 2 Pin_2, 3 Pin_3, 4 Pin_4, 5 Pin_5, 6 Pin_6, 7 Pin_7, 8 Pin_8, 9 Pin_9, 10 Pin_10, 11 Pin_11, 12 Pin_12, 13 Pin_13, 14 Pin_14, 15 Pin_15, 16 Pin_16, 17 Pin_17, 18 Pin_18, 19 Pin_19, 20 Pin_20, 21 Pin_21, 22 Pin_22, 23 Pin_23, 24 Pin_24, 25 Pin_25, 26 Pin_26, 27 Pin_27, 28 Pin_28, 29 Pin_29, 30 Pin_30, 31 Pin_31, 32 Pin_32, 33 Pin_33, 34 Pin_34, 35 Pin_35, 36 Pin_36, 37 Pin_37, 38 Pin_38, 39 Pin_39, 40 Pin_40, 41 Pin_41, MP MountPin
text: Mounting

## Conn_01x42_MountingPin
designator *  value Conn_01x42_MountingPin  Reference: J
"Generic connectable mounting pin connector, single row, 01x42, script generated"; ki_fp_filters: Connector*:*_1x??-1MP*; Datasheet: ~; Description_: "Generic connectable mounting pin connector, single row, 01x42, script generated"; ki_keywords: connector
pins: 1 Pin_1, 2 Pin_2, 3 Pin_3, 4 Pin_4, 5 Pin_5, 6 Pin_6, 7 Pin_7, 8 Pin_8, 9 Pin_9, 10 Pin_10, 11 Pin_11, 12 Pin_12, 13 Pin_13, 14 Pin_14, 15 Pin_15, 16 Pin_16, 17 Pin_17, 18 Pin_18, 19 Pin_19, 20 Pin_20, 21 Pin_21, 22 Pin_22, 23 Pin_23, 24 Pin_24, 25 Pin_25, 26 Pin_26, 27 Pin_27, 28 Pin_28, 29 Pin_29, 30 Pin_30, 31 Pin_31, 32 Pin_32, 33 Pin_33, 34 Pin_34, 35 Pin_35, 36 Pin_36, 37 Pin_37, 38 Pin_38, 39 Pin_39, 40 Pin_40, 41 Pin_41, 42 Pin_42, MP MountPin
text: Mounting

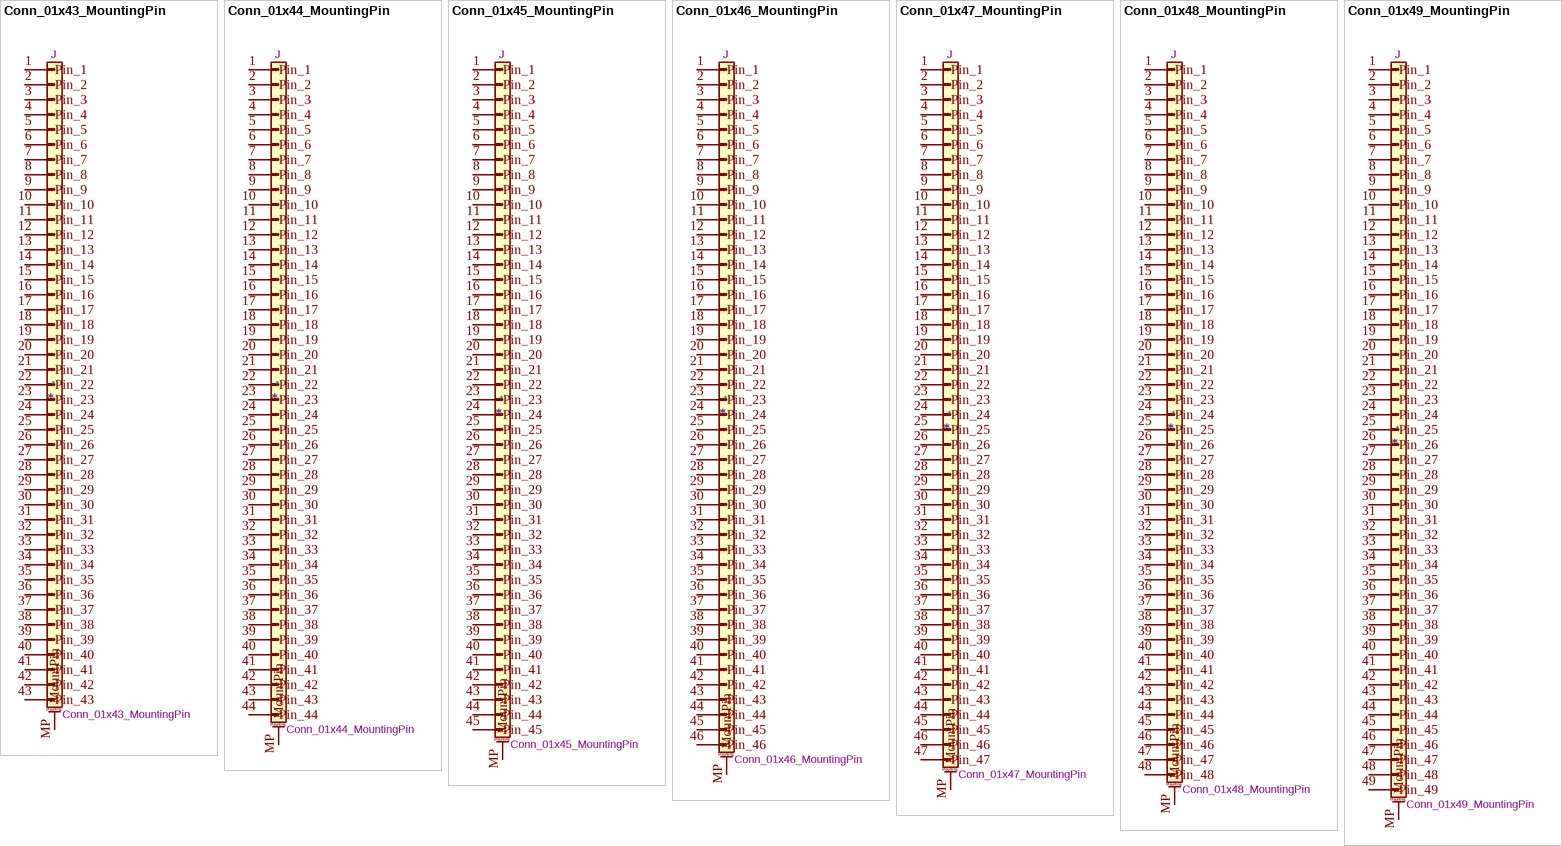
[diagram p2: symbols Conn_01x43_MountingPin to Conn_01x49_MountingPin]

## Conn_01x43_MountingPin
designator *  value Conn_01x43_MountingPin  Reference: J
"Generic connectable mounting pin connector, single row, 01x43, script generated"; ki_fp_filters: Connector*:*_1x??-1MP*; Datasheet: ~; Description_: "Generic connectable mounting pin connector, single row, 01x43, script generated"; ki_keywords: connector
pins: 1 Pin_1, 2 Pin_2, 3 Pin_3, 4 Pin_4, 5 Pin_5, 6 Pin_6, 7 Pin_7, 8 Pin_8, 9 Pin_9, 10 Pin_10, 11 Pin_11, 12 Pin_12, 13 Pin_13, 14 Pin_14, 15 Pin_15, 16 Pin_16, 17 Pin_17, 18 Pin_18, 19 Pin_19, 20 Pin_20, 21 Pin_21, 22 Pin_22, 23 Pin_23, 24 Pin_24, 25 Pin_25, 26 Pin_26, 27 Pin_27, 28 Pin_28, 29 Pin_29, 30 Pin_30, 31 Pin_31, 32 Pin_32, 33 Pin_33, 34 Pin_34, 35 Pin_35, 36 Pin_36, 37 Pin_37, 38 Pin_38, 39 Pin_39, 40 Pin_40, 41 Pin_41, 42 Pin_42, 43 Pin_43, MP MountPin
text: Mounting

## Conn_01x44_MountingPin
designator *  value Conn_01x44_MountingPin  Reference: J
"Generic connectable mounting pin connector, single row, 01x44, script generated"; ki_fp_filters: Connector*:*_1x??-1MP*; Datasheet: ~; Description_: "Generic connectable mounting pin connector, single row, 01x44, script generated"; ki_keywords: connector
pins: 1 Pin_1, 2 Pin_2, 3 Pin_3, 4 Pin_4, 5 Pin_5, 6 Pin_6, 7 Pin_7, 8 Pin_8, 9 Pin_9, 10 Pin_10, 11 Pin_11, 12 Pin_12, 13 Pin_13, 14 Pin_14, 15 Pin_15, 16 Pin_16, 17 Pin_17, 18 Pin_18, 19 Pin_19, 20 Pin_20, 21 Pin_21, 22 Pin_22, 23 Pin_23, 24 Pin_24, 25 Pin_25, 26 Pin_26, 27 Pin_27, 28 Pin_28, 29 Pin_29, 30 Pin_30, 31 Pin_31, 32 Pin_32, 33 Pin_33, 34 Pin_34, 35 Pin_35, 36 Pin_36, 37 Pin_37, 38 Pin_38, 39 Pin_39, 40 Pin_40, 41 Pin_41, 42 Pin_42, 43 Pin_43, 44 Pin_44, MP MountPin
text: Mounting

## Conn_01x45_MountingPin
designator *  value Conn_01x45_MountingPin  Reference: J
"Generic connectable mounting pin connector, single row, 01x45, script generated"; ki_fp_filters: Connector*:*_1x??-1MP*; Datasheet: ~; Description_: "Generic connectable mounting pin connector, single row, 01x45, script generated"; ki_keywords: connector
pins: 1 Pin_1, 2 Pin_2, 3 Pin_3, 4 Pin_4, 5 Pin_5, 6 Pin_6, 7 Pin_7, 8 Pin_8, 9 Pin_9, 10 Pin_10, 11 Pin_11, 12 Pin_12, 13 Pin_13, 14 Pin_14, 15 Pin_15, 16 Pin_16, 17 Pin_17, 18 Pin_18, 19 Pin_19, 20 Pin_20, 21 Pin_21, 22 Pin_22, 23 Pin_23, 24 Pin_24, 25 Pin_25, 26 Pin_26, 27 Pin_27, 28 Pin_28, 29 Pin_29, 30 Pin_30, 31 Pin_31, 32 Pin_32, 33 Pin_33, 34 Pin_34, 35 Pin_35, 36 Pin_36, 37 Pin_37, 38 Pin_38, 39 Pin_39, 40 Pin_40, 41 Pin_41, 42 Pin_42, 43 Pin_43, 44 Pin_44, 45 Pin_45, MP MountPin
text: Mounting

## Conn_01x46_MountingPin
designator *  value Conn_01x46_MountingPin  Reference: J
"Generic connectable mounting pin connector, single row, 01x46, script generated"; ki_fp_filters: Connector*:*_1x??-1MP*; Datasheet: ~; Description_: "Generic connectable mounting pin connector, single row, 01x46, script generated"; ki_keywords: connector
pins: 1 Pin_1, 2 Pin_2, 3 Pin_3, 4 Pin_4, 5 Pin_5, 6 Pin_6, 7 Pin_7, 8 Pin_8, 9 Pin_9, 10 Pin_10, 11 Pin_11, 12 Pin_12, 13 Pin_13, 14 Pin_14, 15 Pin_15, 16 Pin_16, 17 Pin_17, 18 Pin_18, 19 Pin_19, 20 Pin_20, 21 Pin_21, 22 Pin_22, 23 Pin_23, 24 Pin_24, 25 Pin_25, 26 Pin_26, 27 Pin_27, 28 Pin_28, 29 Pin_29, 30 Pin_30, 31 Pin_31, 32 Pin_32, 33 Pin_33, 34 Pin_34, 35 Pin_35, 36 Pin_36, 37 Pin_37, 38 Pin_38, 39 Pin_39, 40 Pin_40, 41 Pin_41, 42 Pin_42, 43 Pin_43, 44 Pin_44, 45 Pin_45, 46 Pin_46, MP MountPin
text: Mounting

## Conn_01x47_MountingPin
designator *  value Conn_01x47_MountingPin  Reference: J
"Generic connectable mounting pin connector, single row, 01x47, script generated"; ki_fp_filters: Connector*:*_1x??-1MP*; Datasheet: ~; Description_: "Generic connectable mounting pin connector, single row, 01x47, script generated"; ki_keywords: connector
pins: 1 Pin_1, 2 Pin_2, 3 Pin_3, 4 Pin_4, 5 Pin_5, 6 Pin_6, 7 Pin_7, 8 Pin_8, 9 Pin_9, 10 Pin_10, 11 Pin_11, 12 Pin_12, 13 Pin_13, 14 Pin_14, 15 Pin_15, 16 Pin_16, 17 Pin_17, 18 Pin_18, 19 Pin_19, 20 Pin_20, 21 Pin_21, 22 Pin_22, 23 Pin_23, 24 Pin_24, 25 Pin_25, 26 Pin_26, 27 Pin_27, 28 Pin_28, 29 Pin_29, 30 Pin_30, 31 Pin_31, 32 Pin_32, 33 Pin_33, 34 Pin_34, 35 Pin_35, 36 Pin_36, 37 Pin_37, 38 Pin_38, 39 Pin_39, 40 Pin_40, 41 Pin_41, 42 Pin_42, 43 Pin_43, 44 Pin_44, 45 Pin_45, 46 Pin_46, 47 Pin_47, MP MountPin
text: Mounting

## Conn_01x48_MountingPin
designator *  value Conn_01x48_MountingPin  Reference: J
"Generic connectable mounting pin connector, single row, 01x48, script generated"; ki_fp_filters: Connector*:*_1x??-1MP*; Datasheet: ~; Description_: "Generic connectable mounting pin connector, single row, 01x48, script generated"; ki_keywords: connector
pins: 1 Pin_1, 2 Pin_2, 3 Pin_3, 4 Pin_4, 5 Pin_5, 6 Pin_6, 7 Pin_7, 8 Pin_8, 9 Pin_9, 10 Pin_10, 11 Pin_11, 12 Pin_12, 13 Pin_13, 14 Pin_14, 15 Pin_15, 16 Pin_16, 17 Pin_17, 18 Pin_18, 19 Pin_19, 20 Pin_20, 21 Pin_21, 22 Pin_22, 23 Pin_23, 24 Pin_24, 25 Pin_25, 26 Pin_26, 27 Pin_27, 28 Pin_28, 29 Pin_29, 30 Pin_30, 31 Pin_31, 32 Pin_32, 33 Pin_33, 34 Pin_34, 35 Pin_35, 36 Pin_36, 37 Pin_37, 38 Pin_38, 39 Pin_39, 40 Pin_40, 41 Pin_41, 42 Pin_42, 43 Pin_43, 44 Pin_44, 45 Pin_45, 46 Pin_46, 47 Pin_47, 48 Pin_48, MP MountPin
text: Mounting

## Conn_01x49_MountingPin
designator *  value Conn_01x49_MountingPin  Reference: J
"Generic connectable mounting pin connector, single row, 01x49, script generated"; ki_fp_filters: Connector*:*_1x??-1MP*; Datasheet: ~; Description_: "Generic connectable mounting pin connector, single row, 01x49, script generated"; ki_keywords: connector
pins: 1 Pin_1, 2 Pin_2, 3 Pin_3, 4 Pin_4, 5 Pin_5, 6 Pin_6, 7 Pin_7, 8 Pin_8, 9 Pin_9, 10 Pin_10, 11 Pin_11, 12 Pin_12, 13 Pin_13, 14 Pin_14, 15 Pin_15, 16 Pin_16, 17 Pin_17, 18 Pin_18, 19 Pin_19, 20 Pin_20, 21 Pin_21, 22 Pin_22, 23 Pin_23, 24 Pin_24, 25 Pin_25, 26 Pin_26, 27 Pin_27, 28 Pin_28, 29 Pin_29, 30 Pin_30, 31 Pin_31, 32 Pin_32, 33 Pin_33, 34 Pin_34, 35 Pin_35, 36 Pin_36, 37 Pin_37, 38 Pin_38, 39 Pin_39, 40 Pin_40, 41 Pin_41, 42 Pin_42, 43 Pin_43, 44 Pin_44, 45 Pin_45, 46 Pin_46, 47 Pin_47, 48 Pin_48, 49 Pin_49, MP MountPin
text: Mounting

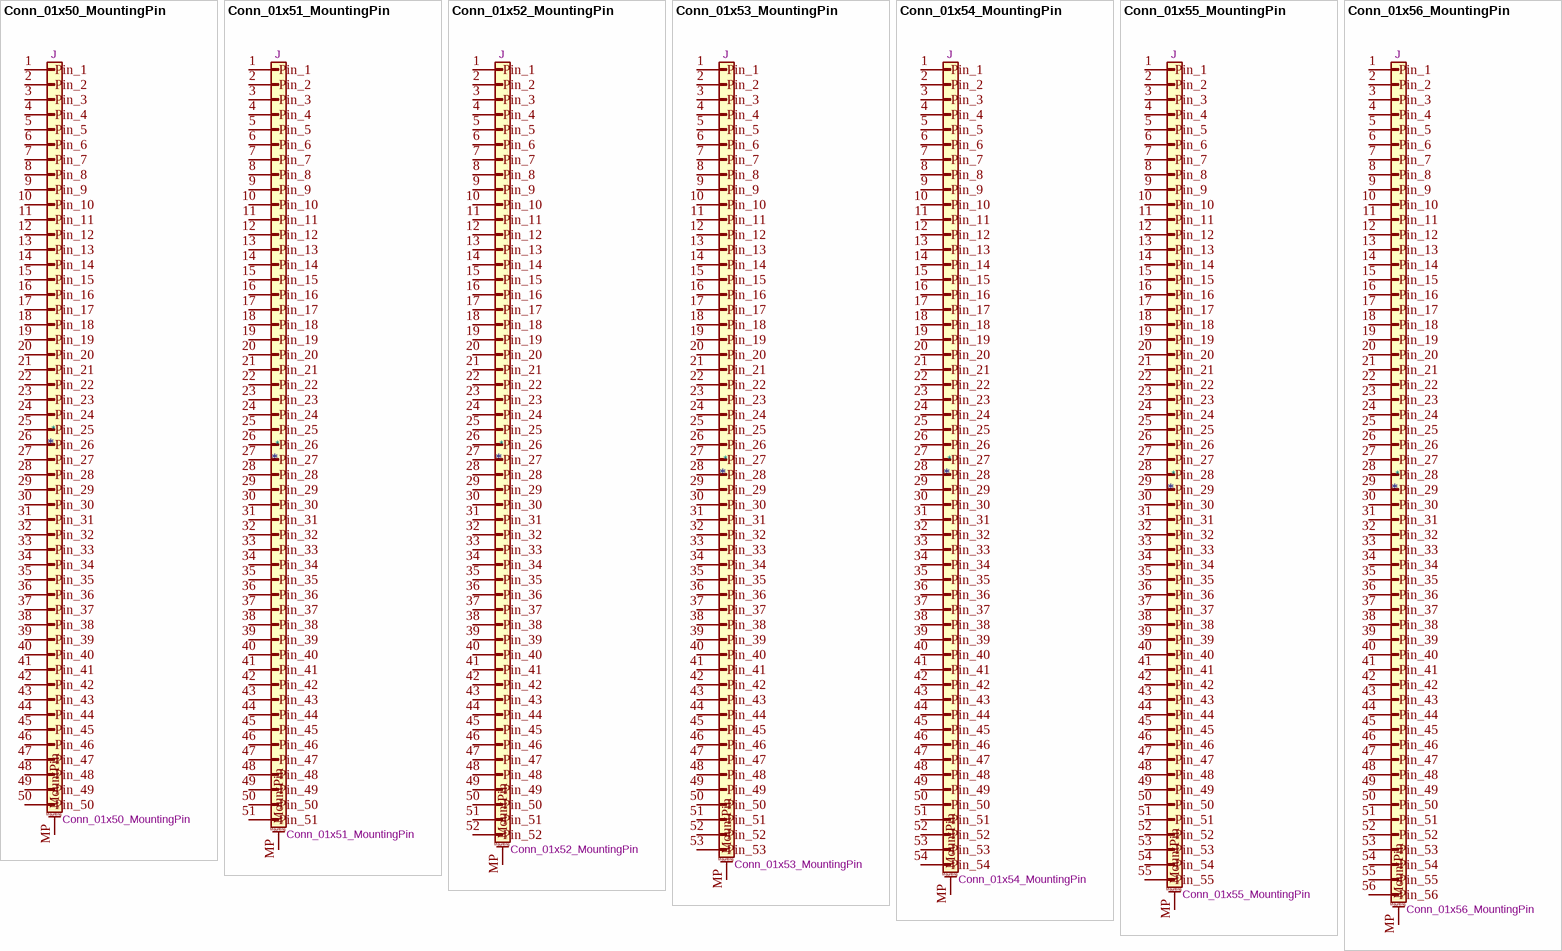
[diagram p3: symbols Conn_01x50_MountingPin to Conn_01x56_MountingPin]

## Conn_01x50_MountingPin
designator *  value Conn_01x50_MountingPin  Reference: J
"Generic connectable mounting pin connector, single row, 01x50, script generated"; ki_fp_filters: Connector*:*_1x??-1MP*; Datasheet: ~; Description_: "Generic connectable mounting pin connector, single row, 01x50, script generated"; ki_keywords: connector
pins: 1 Pin_1, 2 Pin_2, 3 Pin_3, 4 Pin_4, 5 Pin_5, 6 Pin_6, 7 Pin_7, 8 Pin_8, 9 Pin_9, 10 Pin_10, 11 Pin_11, 12 Pin_12, 13 Pin_13, 14 Pin_14, 15 Pin_15, 16 Pin_16, 17 Pin_17, 18 Pin_18, 19 Pin_19, 20 Pin_20, 21 Pin_21, 22 Pin_22, 23 Pin_23, 24 Pin_24, 25 Pin_25, 26 Pin_26, 27 Pin_27, 28 Pin_28, 29 Pin_29, 30 Pin_30, 31 Pin_31, 32 Pin_32, 33 Pin_33, 34 Pin_34, 35 Pin_35, 36 Pin_36, 37 Pin_37, 38 Pin_38, 39 Pin_39, 40 Pin_40, 41 Pin_41, 42 Pin_42, 43 Pin_43, 44 Pin_44, 45 Pin_45, 46 Pin_46, 47 Pin_47, 48 Pin_48, 49 Pin_49, 50 Pin_50, MP MountPin
text: Mounting

## Conn_01x51_MountingPin
designator *  value Conn_01x51_MountingPin  Reference: J
"Generic connectable mounting pin connector, single row, 01x51, script generated"; ki_fp_filters: Connector*:*_1x??-1MP*; Datasheet: ~; Description_: "Generic connectable mounting pin connector, single row, 01x51, script generated"; ki_keywords: connector
pins: 1 Pin_1, 2 Pin_2, 3 Pin_3, 4 Pin_4, 5 Pin_5, 6 Pin_6, 7 Pin_7, 8 Pin_8, 9 Pin_9, 10 Pin_10, 11 Pin_11, 12 Pin_12, 13 Pin_13, 14 Pin_14, 15 Pin_15, 16 Pin_16, 17 Pin_17, 18 Pin_18, 19 Pin_19, 20 Pin_20, 21 Pin_21, 22 Pin_22, 23 Pin_23, 24 Pin_24, 25 Pin_25, 26 Pin_26, 27 Pin_27, 28 Pin_28, 29 Pin_29, 30 Pin_30, 31 Pin_31, 32 Pin_32, 33 Pin_33, 34 Pin_34, 35 Pin_35, 36 Pin_36, 37 Pin_37, 38 Pin_38, 39 Pin_39, 40 Pin_40, 41 Pin_41, 42 Pin_42, 43 Pin_43, 44 Pin_44, 45 Pin_45, 46 Pin_46, 47 Pin_47, 48 Pin_48, 49 Pin_49, 50 Pin_50, 51 Pin_51, MP MountPin
text: Mounting

## Conn_01x52_MountingPin
designator *  value Conn_01x52_MountingPin  Reference: J
"Generic connectable mounting pin connector, single row, 01x52, script generated"; ki_fp_filters: Connector*:*_1x??-1MP*; Datasheet: ~; Description_: "Generic connectable mounting pin connector, single row, 01x52, script generated"; ki_keywords: connector
pins: 1 Pin_1, 2 Pin_2, 3 Pin_3, 4 Pin_4, 5 Pin_5, 6 Pin_6, 7 Pin_7, 8 Pin_8, 9 Pin_9, 10 Pin_10, 11 Pin_11, 12 Pin_12, 13 Pin_13, 14 Pin_14, 15 Pin_15, 16 Pin_16, 17 Pin_17, 18 Pin_18, 19 Pin_19, 20 Pin_20, 21 Pin_21, 22 Pin_22, 23 Pin_23, 24 Pin_24, 25 Pin_25, 26 Pin_26, 27 Pin_27, 28 Pin_28, 29 Pin_29, 30 Pin_30, 31 Pin_31, 32 Pin_32, 33 Pin_33, 34 Pin_34, 35 Pin_35, 36 Pin_36, 37 Pin_37, 38 Pin_38, 39 Pin_39, 40 Pin_40, 41 Pin_41, 42 Pin_42, 43 Pin_43, 44 Pin_44, 45 Pin_45, 46 Pin_46, 47 Pin_47, 48 Pin_48, 49 Pin_49, 50 Pin_50, 51 Pin_51, 52 Pin_52, MP MountPin
text: Mounting

## Conn_01x53_MountingPin
designator *  value Conn_01x53_MountingPin  Reference: J
"Generic connectable mounting pin connector, single row, 01x53, script generated"; ki_fp_filters: Connector*:*_1x??-1MP*; Datasheet: ~; Description_: "Generic connectable mounting pin connector, single row, 01x53, script generated"; ki_keywords: connector
pins: 1 Pin_1, 2 Pin_2, 3 Pin_3, 4 Pin_4, 5 Pin_5, 6 Pin_6, 7 Pin_7, 8 Pin_8, 9 Pin_9, 10 Pin_10, 11 Pin_11, 12 Pin_12, 13 Pin_13, 14 Pin_14, 15 Pin_15, 16 Pin_16, 17 Pin_17, 18 Pin_18, 19 Pin_19, 20 Pin_20, 21 Pin_21, 22 Pin_22, 23 Pin_23, 24 Pin_24, 25 Pin_25, 26 Pin_26, 27 Pin_27, 28 Pin_28, 29 Pin_29, 30 Pin_30, 31 Pin_31, 32 Pin_32, 33 Pin_33, 34 Pin_34, 35 Pin_35, 36 Pin_36, 37 Pin_37, 38 Pin_38, 39 Pin_39, 40 Pin_40, 41 Pin_41, 42 Pin_42, 43 Pin_43, 44 Pin_44, 45 Pin_45, 46 Pin_46, 47 Pin_47, 48 Pin_48, 49 Pin_49, 50 Pin_50, 51 Pin_51, 52 Pin_52, 53 Pin_53, MP MountPin
text: Mounting

## Conn_01x54_MountingPin
designator *  value Conn_01x54_MountingPin  Reference: J
"Generic connectable mounting pin connector, single row, 01x54, script generated"; ki_fp_filters: Connector*:*_1x??-1MP*; Datasheet: ~; Description_: "Generic connectable mounting pin connector, single row, 01x54, script generated"; ki_keywords: connector
pins: 1 Pin_1, 2 Pin_2, 3 Pin_3, 4 Pin_4, 5 Pin_5, 6 Pin_6, 7 Pin_7, 8 Pin_8, 9 Pin_9, 10 Pin_10, 11 Pin_11, 12 Pin_12, 13 Pin_13, 14 Pin_14, 15 Pin_15, 16 Pin_16, 17 Pin_17, 18 Pin_18, 19 Pin_19, 20 Pin_20, 21 Pin_21, 22 Pin_22, 23 Pin_23, 24 Pin_24, 25 Pin_25, 26 Pin_26, 27 Pin_27, 28 Pin_28, 29 Pin_29, 30 Pin_30, 31 Pin_31, 32 Pin_32, 33 Pin_33, 34 Pin_34, 35 Pin_35, 36 Pin_36, 37 Pin_37, 38 Pin_38, 39 Pin_39, 40 Pin_40, 41 Pin_41, 42 Pin_42, 43 Pin_43, 44 Pin_44, 45 Pin_45, 46 Pin_46, 47 Pin_47, 48 Pin_48, 49 Pin_49, 50 Pin_50, 51 Pin_51, 52 Pin_52, 53 Pin_53, 54 Pin_54, MP MountPin
text: Mounting

## Conn_01x55_MountingPin
designator *  value Conn_01x55_MountingPin  Reference: J
"Generic connectable mounting pin connector, single row, 01x55, script generated"; ki_fp_filters: Connector*:*_1x??-1MP*; Datasheet: ~; Description_: "Generic connectable mounting pin connector, single row, 01x55, script generated"; ki_keywords: connector
pins: 1 Pin_1, 2 Pin_2, 3 Pin_3, 4 Pin_4, 5 Pin_5, 6 Pin_6, 7 Pin_7, 8 Pin_8, 9 Pin_9, 10 Pin_10, 11 Pin_11, 12 Pin_12, 13 Pin_13, 14 Pin_14, 15 Pin_15, 16 Pin_16, 17 Pin_17, 18 Pin_18, 19 Pin_19, 20 Pin_20, 21 Pin_21, 22 Pin_22, 23 Pin_23, 24 Pin_24, 25 Pin_25, 26 Pin_26, 27 Pin_27, 28 Pin_28, 29 Pin_29, 30 Pin_30, 31 Pin_31, 32 Pin_32, 33 Pin_33, 34 Pin_34, 35 Pin_35, 36 Pin_36, 37 Pin_37, 38 Pin_38, 39 Pin_39, 40 Pin_40, 41 Pin_41, 42 Pin_42, 43 Pin_43, 44 Pin_44, 45 Pin_45, 46 Pin_46, 47 Pin_47, 48 Pin_48, 49 Pin_49, 50 Pin_50, 51 Pin_51, 52 Pin_52, 53 Pin_53, 54 Pin_54, 55 Pin_55, MP MountPin
text: Mounting

## Conn_01x56_MountingPin
designator *  value Conn_01x56_MountingPin  Reference: J
"Generic connectable mounting pin connector, single row, 01x56, script generated"; ki_fp_filters: Connector*:*_1x??-1MP*; Datasheet: ~; Description_: "Generic connectable mounting pin connector, single row, 01x56, script generated"; ki_keywords: connector
pins: 1 Pin_1, 2 Pin_2, 3 Pin_3, 4 Pin_4, 5 Pin_5, 6 Pin_6, 7 Pin_7, 8 Pin_8, 9 Pin_9, 10 Pin_10, 11 Pin_11, 12 Pin_12, 13 Pin_13, 14 Pin_14, 15 Pin_15, 16 Pin_16, 17 Pin_17, 18 Pin_18, 19 Pin_19, 20 Pin_20, 21 Pin_21, 22 Pin_22, 23 Pin_23, 24 Pin_24, 25 Pin_25, 26 Pin_26, 27 Pin_27, 28 Pin_28, 29 Pin_29, 30 Pin_30, 31 Pin_31, 32 Pin_32, 33 Pin_33, 34 Pin_34, 35 Pin_35, 36 Pin_36, 37 Pin_37, 38 Pin_38, 39 Pin_39, 40 Pin_40, 41 Pin_41, 42 Pin_42, 43 Pin_43, 44 Pin_44, 45 Pin_45, 46 Pin_46, 47 Pin_47, 48 Pin_48, 49 Pin_49, 50 Pin_50, 51 Pin_51, 52 Pin_52, 53 Pin_53, 54 Pin_54, 55 Pin_55, 56 Pin_56, MP MountPin
text: Mounting

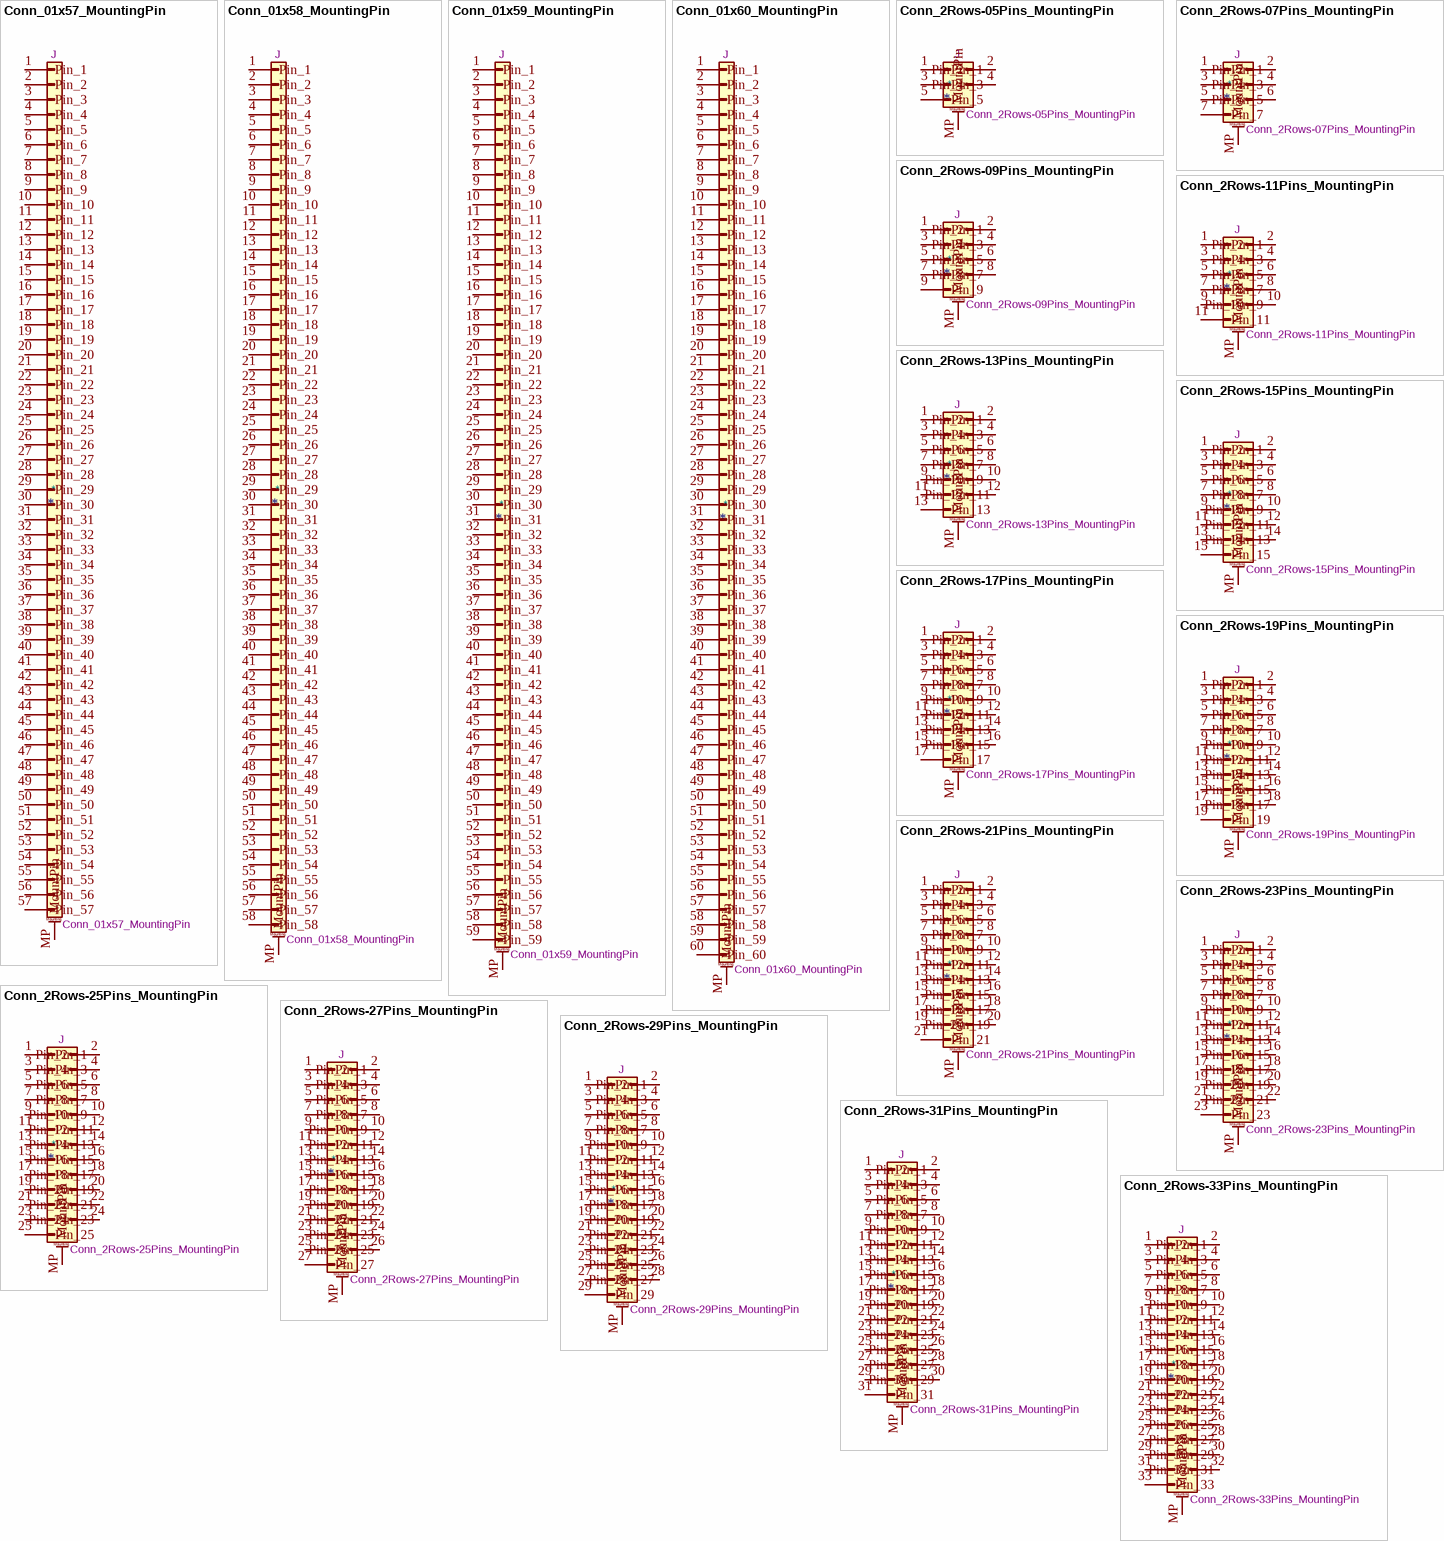
[diagram p4: symbols Conn_01x57_MountingPin to Conn_2Rows-33Pins_MountingPin]

## Conn_01x57_MountingPin
designator *  value Conn_01x57_MountingPin  Reference: J
"Generic connectable mounting pin connector, single row, 01x57, script generated"; ki_fp_filters: Connector*:*_1x??-1MP*; Datasheet: ~; Description_: "Generic connectable mounting pin connector, single row, 01x57, script generated"; ki_keywords: connector
pins: 1 Pin_1, 2 Pin_2, 3 Pin_3, 4 Pin_4, 5 Pin_5, 6 Pin_6, 7 Pin_7, 8 Pin_8, 9 Pin_9, 10 Pin_10, 11 Pin_11, 12 Pin_12, 13 Pin_13, 14 Pin_14, 15 Pin_15, 16 Pin_16, 17 Pin_17, 18 Pin_18, 19 Pin_19, 20 Pin_20, 21 Pin_21, 22 Pin_22, 23 Pin_23, 24 Pin_24, 25 Pin_25, 26 Pin_26, 27 Pin_27, 28 Pin_28, 29 Pin_29, 30 Pin_30, 31 Pin_31, 32 Pin_32, 33 Pin_33, 34 Pin_34, 35 Pin_35, 36 Pin_36, 37 Pin_37, 38 Pin_38, 39 Pin_39, 40 Pin_40, 41 Pin_41, 42 Pin_42, 43 Pin_43, 44 Pin_44, 45 Pin_45, 46 Pin_46, 47 Pin_47, 48 Pin_48, 49 Pin_49, 50 Pin_50, 51 Pin_51, 52 Pin_52, 53 Pin_53, 54 Pin_54, 55 Pin_55, 56 Pin_56, 57 Pin_57, MP MountPin
text: Mounting

## Conn_01x58_MountingPin
designator *  value Conn_01x58_MountingPin  Reference: J
"Generic connectable mounting pin connector, single row, 01x58, script generated"; ki_fp_filters: Connector*:*_1x??-1MP*; Datasheet: ~; Description_: "Generic connectable mounting pin connector, single row, 01x58, script generated"; ki_keywords: connector
pins: 1 Pin_1, 2 Pin_2, 3 Pin_3, 4 Pin_4, 5 Pin_5, 6 Pin_6, 7 Pin_7, 8 Pin_8, 9 Pin_9, 10 Pin_10, 11 Pin_11, 12 Pin_12, 13 Pin_13, 14 Pin_14, 15 Pin_15, 16 Pin_16, 17 Pin_17, 18 Pin_18, 19 Pin_19, 20 Pin_20, 21 Pin_21, 22 Pin_22, 23 Pin_23, 24 Pin_24, 25 Pin_25, 26 Pin_26, 27 Pin_27, 28 Pin_28, 29 Pin_29, 30 Pin_30, 31 Pin_31, 32 Pin_32, 33 Pin_33, 34 Pin_34, 35 Pin_35, 36 Pin_36, 37 Pin_37, 38 Pin_38, 39 Pin_39, 40 Pin_40, 41 Pin_41, 42 Pin_42, 43 Pin_43, 44 Pin_44, 45 Pin_45, 46 Pin_46, 47 Pin_47, 48 Pin_48, 49 Pin_49, 50 Pin_50, 51 Pin_51, 52 Pin_52, 53 Pin_53, 54 Pin_54, 55 Pin_55, 56 Pin_56, 57 Pin_57, 58 Pin_58, MP MountPin
text: Mounting

## Conn_01x59_MountingPin
designator *  value Conn_01x59_MountingPin  Reference: J
"Generic connectable mounting pin connector, single row, 01x59, script generated"; ki_fp_filters: Connector*:*_1x??-1MP*; Datasheet: ~; Description_: "Generic connectable mounting pin connector, single row, 01x59, script generated"; ki_keywords: connector
pins: 1 Pin_1, 2 Pin_2, 3 Pin_3, 4 Pin_4, 5 Pin_5, 6 Pin_6, 7 Pin_7, 8 Pin_8, 9 Pin_9, 10 Pin_10, 11 Pin_11, 12 Pin_12, 13 Pin_13, 14 Pin_14, 15 Pin_15, 16 Pin_16, 17 Pin_17, 18 Pin_18, 19 Pin_19, 20 Pin_20, 21 Pin_21, 22 Pin_22, 23 Pin_23, 24 Pin_24, 25 Pin_25, 26 Pin_26, 27 Pin_27, 28 Pin_28, 29 Pin_29, 30 Pin_30, 31 Pin_31, 32 Pin_32, 33 Pin_33, 34 Pin_34, 35 Pin_35, 36 Pin_36, 37 Pin_37, 38 Pin_38, 39 Pin_39, 40 Pin_40, 41 Pin_41, 42 Pin_42, 43 Pin_43, 44 Pin_44, 45 Pin_45, 46 Pin_46, 47 Pin_47, 48 Pin_48, 49 Pin_49, 50 Pin_50, 51 Pin_51, 52 Pin_52, 53 Pin_53, 54 Pin_54, 55 Pin_55, 56 Pin_56, 57 Pin_57, 58 Pin_58, 59 Pin_59, MP MountPin
text: Mounting

## Conn_01x60_MountingPin
designator *  value Conn_01x60_MountingPin  Reference: J
"Generic connectable mounting pin connector, single row, 01x60, script generated"; ki_fp_filters: Connector*:*_1x??-1MP*; Datasheet: ~; Description_: "Generic connectable mounting pin connector, single row, 01x60, script generated"; ki_keywords: connector
pins: 1 Pin_1, 2 Pin_2, 3 Pin_3, 4 Pin_4, 5 Pin_5, 6 Pin_6, 7 Pin_7, 8 Pin_8, 9 Pin_9, 10 Pin_10, 11 Pin_11, 12 Pin_12, 13 Pin_13, 14 Pin_14, 15 Pin_15, 16 Pin_16, 17 Pin_17, 18 Pin_18, 19 Pin_19, 20 Pin_20, 21 Pin_21, 22 Pin_22, 23 Pin_23, 24 Pin_24, 25 Pin_25, 26 Pin_26, 27 Pin_27, 28 Pin_28, 29 Pin_29, 30 Pin_30, 31 Pin_31, 32 Pin_32, 33 Pin_33, 34 Pin_34, 35 Pin_35, 36 Pin_36, 37 Pin_37, 38 Pin_38, 39 Pin_39, 40 Pin_40, 41 Pin_41, 42 Pin_42, 43 Pin_43, 44 Pin_44, 45 Pin_45, 46 Pin_46, 47 Pin_47, 48 Pin_48, 49 Pin_49, 50 Pin_50, 51 Pin_51, 52 Pin_52, 53 Pin_53, 54 Pin_54, 55 Pin_55, 56 Pin_56, 57 Pin_57, 58 Pin_58, 59 Pin_59, 60 Pin_60, MP MountPin
text: Mounting

## Conn_2Rows-05Pins_MountingPin
designator *  value Conn_2Rows-05Pins_MountingPin  Reference: J
Generic connectable mounting pin connector, double row, 05 pins, odd/even pin numbering scheme (row 1 odd numbers, row 2 even numbers), script generated (kicad-library-utils/schlib/autogen/connector/); ki_fp_filters: Connector*:*2Rows*Pins-1MP_* *FCC*2Rows*Pins-1MP_*; Datasheet: ~; Description_: Generic connectable mounting pin connector, double row, 05 pins, odd/even pin numbering scheme (row 1 odd numbers, row 2 even numbers), script generated (kicad-library-utils/schlib/autogen/connector/); ki_keywords: connector
pins: 1 Pin_1, 2 Pin_2, 3 Pin_3, 4 Pin_4, 5 Pin_5, MP MountPin
text: Mounting

## Conn_2Rows-07Pins_MountingPin
designator *  value Conn_2Rows-07Pins_MountingPin  Reference: J
Generic connectable mounting pin connector, double row, 07 pins, odd/even pin numbering scheme (row 1 odd numbers, row 2 even numbers), script generated (kicad-library-utils/schlib/autogen/connector/); ki_fp_filters: Connector*:*2Rows*Pins-1MP_* *FCC*2Rows*Pins-1MP_*; Datasheet: ~; Description_: Generic connectable mounting pin connector, double row, 07 pins, odd/even pin numbering scheme (row 1 odd numbers, row 2 even numbers), script generated (kicad-library-utils/schlib/autogen/connector/); ki_keywords: connector
pins: 1 Pin_1, 2 Pin_2, 3 Pin_3, 4 Pin_4, 5 Pin_5, 6 Pin_6, 7 Pin_7, MP MountPin
text: Mounting

## Conn_2Rows-09Pins_MountingPin
designator *  value Conn_2Rows-09Pins_MountingPin  Reference: J
Generic connectable mounting pin connector, double row, 09 pins, odd/even pin numbering scheme (row 1 odd numbers, row 2 even numbers), script generated (kicad-library-utils/schlib/autogen/connector/); ki_fp_filters: Connector*:*2Rows*Pins-1MP_* *FCC*2Rows*Pins-1MP_*; Datasheet: ~; Description_: Generic connectable mounting pin connector, double row, 09 pins, odd/even pin numbering scheme (row 1 odd numbers, row 2 even numbers), script generated (kicad-library-utils/schlib/autogen/connector/); ki_keywords: connector
pins: 1 Pin_1, 2 Pin_2, 3 Pin_3, 4 Pin_4, 5 Pin_5, 6 Pin_6, 7 Pin_7, 8 Pin_8, 9 Pin_9, MP MountPin
text: Mounting

## Conn_2Rows-11Pins_MountingPin
designator *  value Conn_2Rows-11Pins_MountingPin  Reference: J
Generic connectable mounting pin connector, double row, 11 pins, odd/even pin numbering scheme (row 1 odd numbers, row 2 even numbers), script generated (kicad-library-utils/schlib/autogen/connector/); ki_fp_filters: Connector*:*2Rows*Pins-1MP_* *FCC*2Rows*Pins-1MP_*; Datasheet: ~; Description_: Generic connectable mounting pin connector, double row, 11 pins, odd/even pin numbering scheme (row 1 odd numbers, row 2 even numbers), script generated (kicad-library-utils/schlib/autogen/connector/); ki_keywords: connector
pins: 1 Pin_1, 2 Pin_2, 3 Pin_3, 4 Pin_4, 5 Pin_5, 6 Pin_6, 7 Pin_7, 8 Pin_8, 9 Pin_9, 10 Pin_10, 11 Pin_11, MP MountPin
text: Mounting

## Conn_2Rows-13Pins_MountingPin
designator *  value Conn_2Rows-13Pins_MountingPin  Reference: J
Generic connectable mounting pin connector, double row, 13 pins, odd/even pin numbering scheme (row 1 odd numbers, row 2 even numbers), script generated (kicad-library-utils/schlib/autogen/connector/); ki_fp_filters: Connector*:*2Rows*Pins-1MP_* *FCC*2Rows*Pins-1MP_*; Datasheet: ~; Description_: Generic connectable mounting pin connector, double row, 13 pins, odd/even pin numbering scheme (row 1 odd numbers, row 2 even numbers), script generated (kicad-library-utils/schlib/autogen/connector/); ki_keywords: connector
pins: 1 Pin_1, 2 Pin_2, 3 Pin_3, 4 Pin_4, 5 Pin_5, 6 Pin_6, 7 Pin_7, 8 Pin_8, 9 Pin_9, 10 Pin_10, 11 Pin_11, 12 Pin_12, 13 Pin_13, MP MountPin
text: Mounting

## Conn_2Rows-15Pins_MountingPin
designator *  value Conn_2Rows-15Pins_MountingPin  Reference: J
Generic connectable mounting pin connector, double row, 15 pins, odd/even pin numbering scheme (row 1 odd numbers, row 2 even numbers), script generated (kicad-library-utils/schlib/autogen/connector/); ki_fp_filters: Connector*:*2Rows*Pins-1MP_* *FCC*2Rows*Pins-1MP_*; Datasheet: ~; Description_: Generic connectable mounting pin connector, double row, 15 pins, odd/even pin numbering scheme (row 1 odd numbers, row 2 even numbers), script generated (kicad-library-utils/schlib/autogen/connector/); ki_keywords: connector
pins: 1 Pin_1, 2 Pin_2, 3 Pin_3, 4 Pin_4, 5 Pin_5, 6 Pin_6, 7 Pin_7, 8 Pin_8, 9 Pin_9, 10 Pin_10, 11 Pin_11, 12 Pin_12, 13 Pin_13, 14 Pin_14, 15 Pin_15, MP MountPin
text: Mounting